# Altium schematic symbol library Schlib2.SchLib: 1 symbol
Pins are listed as number, name and electrical type; pins without a type are passive.

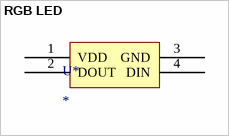
[diagram p0: symbol RGB LED]

## RGB LED
designator U*
pins: 1 VDD, 2 DOUT, 3 GND, 4 DIN